# Altium schematic symbol library ZAR15076CKG.SchLib: 1 symbol
Pins are listed as number, name and electrical type; pins without a type are passive.

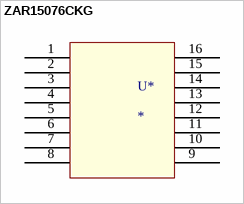
[diagram p0: symbol ZAR15076CKG]

## ZAR15076CKG
designator U*
pins: 1, 2, 3, 4, 5, 6, 7, 8, 9, 10, 11, 12, 13, 14, 15 (power), 16 (power)